# EAGLE library part LTC3561 (library PowerProducts)
1A, 4MHz, Synchronous Step-Down DC/DC Converter
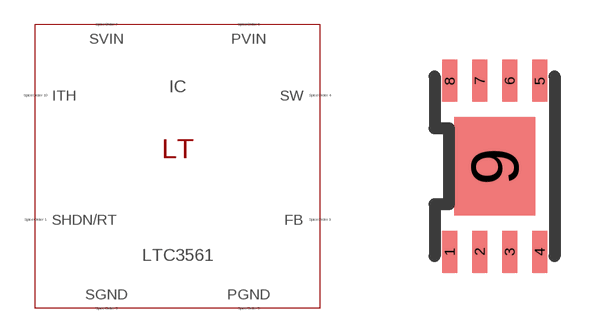
[diagram p249: symbol with the pads of DFN8(DD); footprint DFN8(DD)]

Designator prefix IC

## LTC3561 (SPICEMODEL: LTC3561.sub; SPICEPREFIX: X; VALUE2: LTC3561)  [DFN8(DD)]
1  SHDN/RT  pas
2  SGND  pas
3  SW  pas
4  PGND  pas
5  PVIN  pas
6  SVIN  pas
7  FB  pas
8  ITH  pas
9  SGND  pas

## Footprint DFN8(DD) (pad centres in mm)
Package generated from: DFN8(DD).asc (!PADS-POWERPCB-V5.0-BASIC! DESIGN DATABASE ASCII FILE 1.0) with :import-pads-powerpcb-v5.ulp Version 1.0.1 at 04.10.2012 14:11:17
smd 0.375 x 1.05: 1 -1.125,-2.138; 2 -0.375,-2.138; 3 0.375,-2.138; 4 1.125,-2.138; 5 1.125,2.138; 6 0.375,2.138; 7 -0.375,2.138; 8 -1.125,2.138
smd 2.025 x 2.475: 9 0,0